# Altium footprint library PAL.PcbLib: 183 footprints (part 9 of 12)
Each footprint in its own frame and in the unit in brackets; x right, y up, seen from the top. Pads: shape width x height; smd on the part's side, far side on the other; paste and mask are expansions set on the pad; w line width, h text height; cw(c..) or ccw(c..) is an arc to the next point about the centre after c.
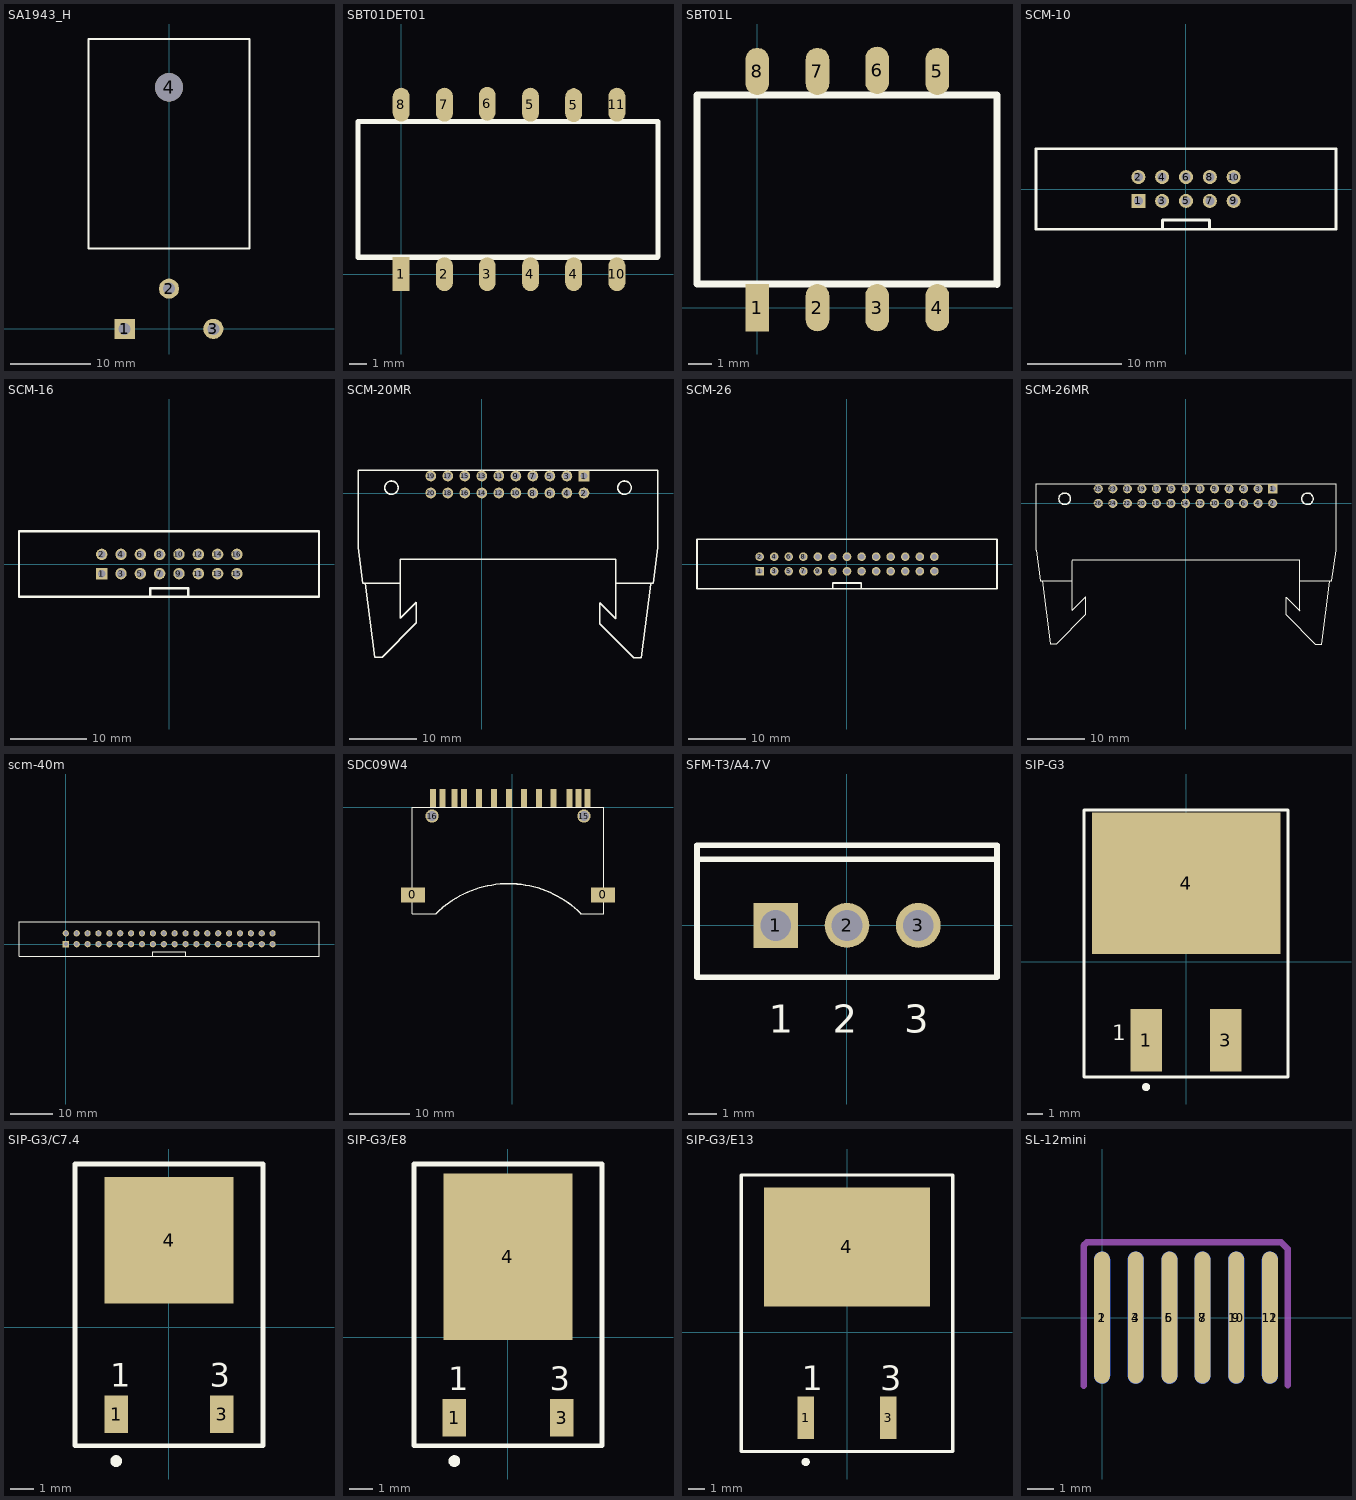
[diagram p8: the footprints below, top view; thin cyan lines are the x and y axes]

## SA1943_H [mm]
pads (4):
  rect 2.5x2.5 hole 1.5: 1(-5.5,0)
  round 2.5 hole 1.5: 2(0,5) 3(5.5,0)
  round 3.5 hole 3.5: 4(0,30)
Top Overlay:
  lines w0.254: -10,10 -10,36 10,36 10,10 0,10 -10,10

## SBT01DET01 [mm]
pads (12):
  rect 1x2 smd: 1(0.007,0.007)
  oval 1x2 smd: 2(2.557,0.007) 3(5.082,0.007) 4(7.632,0.007) 4(10.182,0.007) 5(7.632,10.007) 5(10.182,9.982) 6(5.082,10.057) 7(2.557,10.007) 8(0.007,10.007) 10(12.732,0.007) 11(12.732,10.007)
Top Overlay:
  lines w0.3: -0.043,1.007 15.132,1.007 ; 0.007,1.007 -2.543,1.007 -2.543,9.007 15.157,9.007 15.157,1.057

## SBT01L [mm]
pads (8):
  rect 1x2 smd: 1(0.007,0.007)
  oval 1x2 smd: 2(2.557,0.007) 3(5.082,0.007) 4(7.632,0.007) 5(7.632,10.007) 6(5.082,10.057) 7(2.557,10.007) 8(0.007,10.007)
Top Overlay:
  lines w0.3: -0.043,1.007 10.132,1.007 10.157,0.982 10.157,1.057 10.157,9.007 -2.543,9.007 -2.543,1.007 0.007,1.007

## SCM-10 [mm]
pads (10):
  rect 1.5x1.5 hole 0.95: 1(-5.074,-1.261)
  round 1.5 hole 0.95: 2(-5.074,1.279) 3(-2.534,-1.261) 4(-2.534,1.279) 5(0.006,-1.261) 6(0.006,1.279) 7(2.546,-1.261) 8(2.546,1.279) 9(5.086,-1.261) 10(5.086,1.279)
Top Overlay:
  lines w0.3: -2.494,-4.291 -2.494,-3.291 2.506,-3.291 2.506,-4.291 ; -15.994,-4.291 16.006,-4.291 16.006,4.309 -15.994,4.309 -15.994,0.009 -15.994,-4.291

## SCM-16 [mm]
pads (16):
  rect 1.5x1.5 hole 1: 1(-8.889,-1.266)
  round 1.5 hole 1: 2(-8.889,1.274) 3(-6.349,-1.266) 4(-6.349,1.274) 5(-3.809,-1.266) 6(-3.809,1.274) 7(-1.269,-1.266) 8(-1.269,1.274) 9(1.271,-1.266) 10(1.271,1.274) 11(3.811,-1.266) 12(3.811,1.274) 13(6.351,-1.266) 14(6.351,1.274) 15(8.891,-1.266) 16(8.891,1.274)
Top Overlay:
  lines w0.3: -2.499,-4.169 -2.499,-3.169 2.501,-3.169 2.501,-4.169 ; -19.769,-4.296 -19.769,0.004 -19.769,4.304 19.686,4.322 19.686,-4.314 -19.769,-4.296

## SCM-20MR [mm]
pads (20):
  rect 1.6x1.6 hole 1.1: 1(15.228,2.538)
  round 1.6 hole 1.1: 2(15.228,-0.002) 3(12.688,2.538) 4(12.688,-0.002) 5(10.148,2.538) 6(10.148,-0.002) 7(7.608,2.538) 8(7.608,-0.002) 9(5.068,2.538) 10(5.068,-0.002) 11(2.528,2.538) 12(2.528,-0.002) 13(-0.012,2.538) 14(-0.012,-0.002) 15(-2.552,2.538) 16(-2.552,-0.002) 17(-5.092,2.538) 18(-5.092,-0.002) 19(-7.632,2.538) 20(-7.632,-0.002)
Top Overlay:
  circle w0.254: c-13.512,0.798 r1
  circle w0.254: c21.288,0.798 r1
  lines w0.2: -17.412,-13.502 -16.012,-24.502 -14.912,-24.502 -9.812,-19.402 -9.812,-16.302 -12.212,-18.702 -12.212,-13.502 -17.812,-13.502 -18.512,-8.202 -18.512,3.398 -0.012,3.398 26.288,3.398 26.288,-8.202 25.588,-13.502 19.988,-13.502 ; -12.212,-13.402 -12.212,-10.002 -12.112,-9.902 2.188,-9.902 19.988,-9.902 19.988,-13.602 19.988,-18.802 17.588,-16.402 17.588,-19.502 22.688,-24.602 23.788,-24.602 25.188,-13.602

## SCM-26 [mm]
pads (26):
  rect 1.5x1.5 hole 1: 1(-15.207,-1.212)
  round 1.5 hole 1: 2(-15.207,1.328) 3(-12.667,-1.212) 4(-12.667,1.328) 5(-10.127,-1.212) 6(-10.127,1.328) 7(-7.587,-1.212) 8(-7.587,1.328) 9(-5.047,-1.212) 10(-5.047,1.328) 11(-2.507,-1.212) 12(-2.507,1.328) 13(0.033,-1.212) 14(0.033,1.328) 15(2.573,-1.212) 16(2.573,1.328) 17(5.113,-1.212) 18(5.108,1.333) 19(7.653,-1.212) 20(7.653,1.328) 21(10.193,-1.212) 22(10.193,1.328) 23(12.733,-1.212) 24(12.733,1.328) 25(15.273,-1.212) 26(15.258,1.333)
Top Overlay:
  lines w0.3: -2.467,-4.242 -2.467,-3.242 2.533,-3.242 2.533,-4.242 ; -26.127,-4.242 26.193,-4.242 26.193,4.358 -26.127,4.358 -26.127,0.058 -26.127,-4.242

## SCM-26MR [mm]
pads (26):
  rect 1.6x1.6 hole 1.1: 1(15.228,2.538)
  round 1.6 hole 1.1: 2(15.228,-0.002) 3(12.688,2.538) 4(12.688,-0.002) 5(10.148,2.538) 6(10.148,-0.002) 7(7.608,2.538) 8(7.608,-0.002) 9(5.068,2.538) 10(5.068,-0.002) 11(2.528,2.538) 12(2.528,-0.002) 13(-0.012,2.538) 14(-0.012,-0.002) 15(-2.552,2.538) 16(-2.552,-0.002) 17(-5.092,2.538) 18(-5.092,-0.002) 19(-7.632,2.538) 20(-7.632,-0.002) 21(-10.172,2.538) 22(-10.172,-0.002) 23(-12.712,2.538) 24(-12.712,-0.002) 25(-15.252,2.538) 26(-15.252,-0.002)
Top Overlay:
  circle w0.254: c-21.137,0.798 r1
  circle w0.254: c21.288,0.798 r1
  lines w0.2: -26.137,3.398 -26.137,-8.202 -25.437,-13.502 -19.837,-13.502 -19.837,-18.702 -17.437,-16.302 -17.437,-19.402 -22.537,-24.502 -23.637,-24.502 -25.037,-13.502 ; -26.132,3.398 -0.012,3.398 26.288,3.398 26.288,-8.202 25.588,-13.502 19.988,-13.502 ; -19.837,-13.402 -19.837,-10.002 -19.737,-9.902 -12.112,-9.902 2.188,-9.902 19.988,-9.902 19.988,-13.602 19.988,-18.802 17.588,-16.402 17.588,-19.502 22.688,-24.602 23.788,-24.602 25.188,-13.602

## scm-40m [mm]
pads (40):
  rect 1.45x1.45 hole 0.95: 1(0.01,0.009)
  round 1.45 hole 0.95: 2(0.01,2.549) 3(2.55,0.009) 4(2.55,2.549) 5(5.09,0.009) 6(5.09,2.549) 7(7.63,0.009) 8(7.63,2.549) 9(10.17,0.009) 10(10.17,2.549) 11(12.71,0.009) 12(12.71,2.549) 13(15.25,0.009) 14(15.25,2.549) 15(17.79,0.009) 16(17.79,2.549) 17(20.33,0.009) 18(20.33,2.549) 19(22.87,0.009) 20(22.87,2.549) 21(25.41,0.009) 22(25.41,2.549) 23(27.95,0.009) 24(27.95,2.549) 25(30.49,0.009) 26(30.49,2.549) 27(33.03,0.009) 28(33.03,2.549) 29(35.57,0.009) 30(35.57,2.549) 31(38.11,0.009) 32(38.11,2.549) 33(40.65,0.009) 34(40.65,2.549) 35(43.19,0.009) 36(43.19,2.549) 37(45.73,0.009) 38(45.73,2.549) 39(48.27,0.009) 40(48.27,2.549)
Top Overlay:
  lines w0.2: 20.33,-2.785 20.33,-1.769 27.95,-1.769 27.95,-2.785 ; -10.912,-2.785 59.088,-2.785 59.088,5.215 -10.912,5.215 -10.912,-2.785

## SDC09W4 [mm]
pads (17):
  rect 4x2.5 smd: 0(-16.55,-14.63) 0(15.15,-14.63)
  rect 1x3 smd: 0(-13.15,1.5) 0(-11.6,1.5) 0(11.06,1.5) 0(12.5,1.5) 1(6.88,1.5) 2(4.5,1.5) 3(2,1.5) 4(-0.5,1.5) 5(-3,1.5) 6(-5.5,1.5) 7(-7.99,1.5) 8(-9.61,1.5) 9(9.51,1.5)
  round 2.2 hole 1.7: 15(11.95,-1.5) 16(-13.35,-1.5)
Top Overlay:
  lines w0.2: -16.6,-13.4 -16.6,-0.05 -16.55,0 15.225,0 15.25,-0.025 15.25,-17.825 ; -16.6,-13.325 -16.6,-17.725 -16.65,-17.775 -12.725,-17.775 -12.7,-17.75 ; 11.35,-17.775 15.225,-17.775
  lines w0.254: -12.7,-17.75 cw(c-0.625,-29.85) 11.475,-17.775

## SFM-T3/A4.7V [mm]
pads (3):
  rect 1.6x1.6 hole 1.1: 1(-2.538,0.002)
  round 1.6 hole 1.1: 2(0.002,0.002) 3(2.542,0.002)
Top Overlay:
  lines w0.2: -5.348,2.352 5.352,2.352 ; -5.348,-1.848 5.352,-1.848 5.352,2.852 -5.348,2.852 -5.348,-1.848
  text "2" at -0.498,-3.823 h1
  text "1" at -2.788,-3.823 h1
  text "3" at 2.042,-3.823 h1

## SIP-G3 [mm]
pads (3):
  rect 2x4 smd: 1(-2.563,-4.996) 3(2.517,-4.996)
  rect 12x9 smd: 4(-0.011,5.004)
Top Overlay:
  circle w0.25: c-2.563,-7.973 r0.125
  lines w0.2: -6.523,-7.323 6.477,-7.323 6.477,9.677 -6.523,9.677 -6.523,-7.323
  text "1" at -4.711,-4.996 h1

## SIP-G3/C7.4 [mm]
pads (3):
  rect 1x1.6 smd: 1(-2.243,-3.693) 3(2.257,-3.693)
  rect 5.5x5.4 smd: 4(0.007,3.707)
Top Overlay:
  circle w0.25: c-2.243,-5.693 r0.125
  lines w0.2: -3.993,-5.043 4.007,-5.043 4.007,6.957 -3.993,6.957 -3.993,-5.043
  text "3" at 1.75,-2.518 h1
  text "1" at -2.493,-2.518 h1

## SIP-G3/E8 [mm]
pads (3):
  rect 1x1.6 smd: 1(-2.285,-3.431) 3(2.285,-3.431)
  rect 5.5x7.1 smd: 4(0,3.419)
Top Overlay:
  circle w0.25: c-2.285,-5.281 r0.125
  lines w0.2: -4,-4.631 4,-4.631 4,7.369 -4,7.369 -4,-4.631
  text "1" at -2.54,-2.256 h1
  text "3" at 1.788,-2.256 h1

## SIP-G3/E13 [mm]
pads (3):
  rect 1x2.6 smd: 1(-2.551,-5.246) 3(2.529,-5.246)
  rect 10.2x7.3 smd: 4(-0.011,5.254)
Top Overlay:
  circle w0.25: c-2.551,-7.971 r0.125
  lines w0.2: -6.511,-7.321 -6.511,9.679 6.489,9.679 6.489,-7.321 -6.511,-7.321
  text "1" at -2.801,-3.571 h1.5
  text "3" at 2.021,-3.571 h1.5

## SL-12mini [mm]
pads (12):
  oval 0.6x5 smd: 1(0,0) 3(1.275,0) 5(2.55,0) 7(3.8,0) 9(5.075,0) 11(6.35,0)
  oval 0.6x5 smd far side: 2(0,0) 4(1.275,0) 6(2.55,0) 8(3.8,0) 10(5.075,0) 12(6.35,0)
Mechanical 1:
  lines w0.25: -0.7,-2.575 -0.7,2.7 -0.7,2.725 -0.575,2.85 6.775,2.85 6.925,2.7 7.025,2.6 7.025,-2.55